# Altium footprint library hmi.PcbLib: 23 footprints (part 2 of 2)
Each footprint in its own frame and in the unit in brackets; x right, y up, seen from the top. Pads: shape width x height; smd on the part's side, far side on the other; paste and mask are expansions set on the pad; w line width, h text height; cw(c..) or ccw(c..) is an arc to the next point about the centre after c.
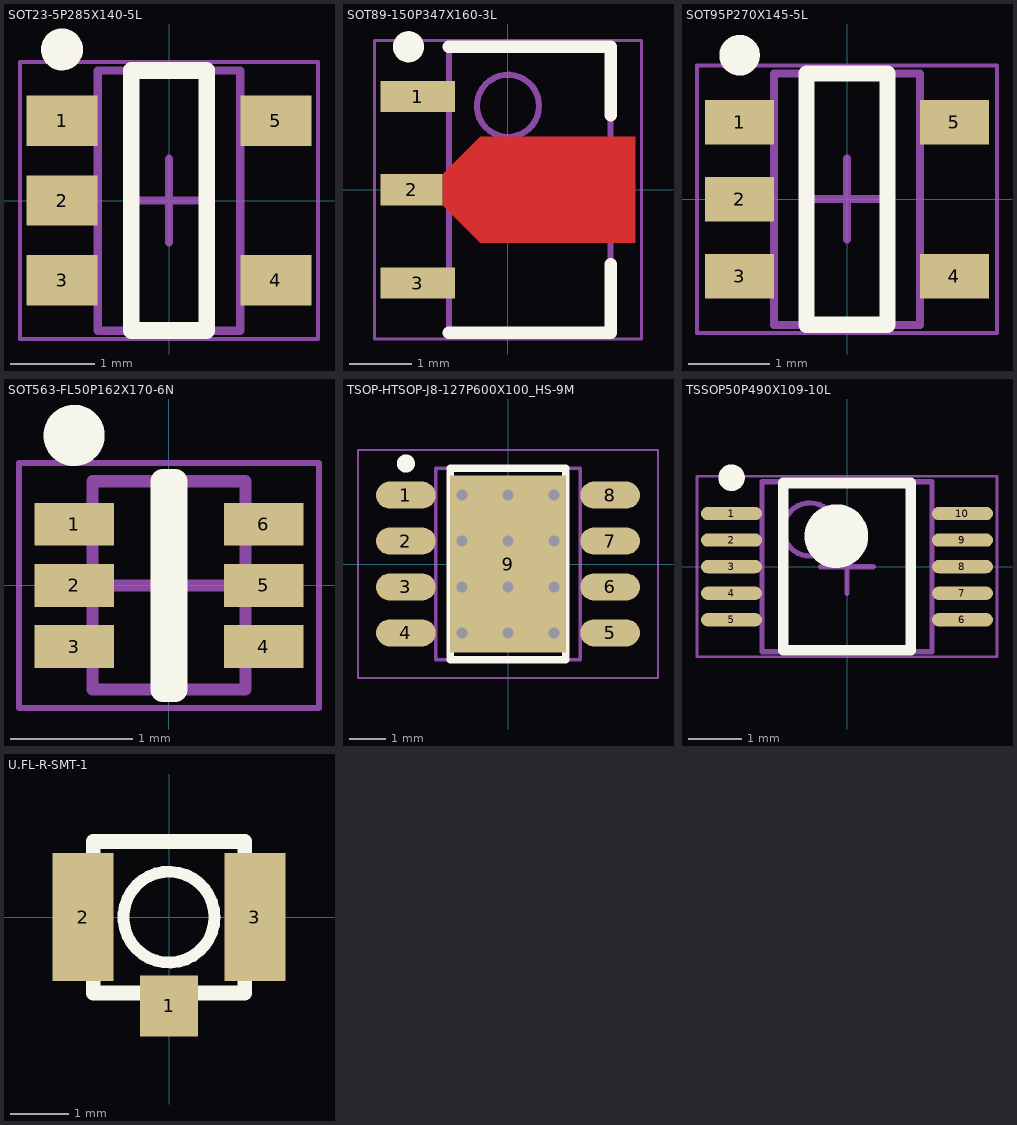
[diagram p1: the footprints below, top view; thin cyan lines are the x and y axes]

## SOT23-5P285X140-5L [mm] "SOT26, 6-Leads, Body 3.00x2.85mm, Pitch 0.95mm, IPC High Density"
height 1.4
pads (5):
  rect 0.85x0.6 smd: 1(-1.275,0.95) 2(-1.275,0) 3(-1.275,-0.95) 4(1.275,-0.95) 5(1.275,0.95)
Top Overlay:
  circle w0.25: c-1.275,1.8 r0.125
  lines w0.2: -0.45,-1.55 -0.45,1.55 0.45,1.55 0.45,-1.55 -0.45,-1.55
Mechanical 13:
  lines w0.1: -0.85,-1.55 0.85,-1.55 0.85,1.55 -0.85,1.55 -0.85,-1.55
Mechanical 15:
  lines w0.05: -1.775,-1.65 1.775,-1.65 1.775,1.65 -1.775,1.65 -1.775,-1.65
  lines w0.1: -0.5,0 0.5,0 ; 0,-0.5 0,0.5
3D body: height 1.4, standoff 0.1, extent -0.85,-1.55 0.85,1.55

## SOT89-150P347X160-3L [mm] "SOT89, 3-Leads, Body 4.50x2.48mm, Pitch 1.50mm, Lead Span 3.5mm, IPC High Density"
height 1.6
pads (3):
  rect 1.2x0.5 smd: 1(-1.45,1.5) 3(-1.45,-1.5)
  rect 1x0.5 smd: 2(-1.55,0)
Top Layer:
  region: -1.05,0.25 -0.45,0.85 2.05,0.85 2.05,-0.85 -0.45,-0.85 -1.05,-0.25
Top Overlay:
  circle w0.25: c-1.6,2.3 r0.125
  lines w0.2: -0.95,-2.3 1.65,-2.3 1.65,-1.2 ; -0.95,2.3 1.65,2.3 1.65,1.2
Mechanical 13:
  circle w0.1: c0,1.35 r0.5
  lines w0.1: -0.95,-2.3 -0.95,2.3 1.65,2.3 1.65,-2.3 -0.95,-2.3
Mechanical 15:
  lines w0.05: -2.15,-2.4 -2.15,2.4 2.15,2.4 2.15,-2.4 -2.15,-2.4
  lines w0.1: -0.15,0 0.85,0 ; 0.35,-0.5 0.35,0.5
3D body: height 1.6, standoff 0, extent -0.95,-2.3 1.65,2.3

## SOT95P270X145-5L [mm] "SOT23, 5-Leads, Body 2.90x2.70mm, Pitch 0.95mm, IPC High Density"
height 1.45
pads (5):
  rect 0.85x0.55 smd: 1(-1.325,0.95) 2(-1.325,0) 3(-1.325,-0.95) 4(1.325,-0.95) 5(1.325,0.95)
Top Overlay:
  circle w0.25: c-1.325,1.775 r0.125
  lines w0.2: -0.5,-1.55 0.5,-1.55 0.5,1.55 -0.5,1.55 -0.5,-1.55
Mechanical 13:
  lines w0.1: -0.9,-1.55 -0.9,1.55 0.9,1.55 0.9,-1.55 -0.9,-1.55
Mechanical 15:
  lines w0.05: -1.85,-1.65 -1.85,1.65 1.85,1.65 1.85,-1.65 -1.85,-1.65
  lines w0.1: -0.5,0 0.5,0 ; 0,-0.5 0,0.5
3D body: height 1.45, standoff 0, extent -0.9,-1.55 0.9,1.55

## SOT563-FL50P162X170-6N [mm] "SOTFL, 6-Leads, Body 1.60x1.63mm, Pitch 0.50mm, IPC Medium Density"
height 1.7
pads (6):
  rect 0.65x0.35 smd: 1(-0.775,0.5) 2(-0.775,0) 3(-0.775,-0.5) 4(0.775,-0.5) 5(0.775,0) 6(0.775,0.5)
Top Overlay:
  circle w0.25: c-0.775,1.225 r0.125
  lines w0.2: -0.05,-0.85 -0.05,0.85 0.05,0.85 0.05,-0.85 -0.05,-0.85
Mechanical 13:
  lines w0.1: -0.625,-0.85 0.625,-0.85 0.625,0.85 -0.625,0.85 -0.625,-0.85
Mechanical 15:
  lines w0.05: -1.225,-1 1.225,-1 1.225,1 -1.225,1 -1.225,-1
  lines w0.1: -0.5,0 0.5,0 ; 0,-0.5 0,0.5
3D body: height 1.7, standoff 0, extent -0.625,-0.85 0.625,0.85

## TSOP-HTSOP-J8-127P600X100_HS-9M [mm] "TSOP, 8-Leads, Body 5.02x3.90mm, Pitch 1.27mm, Thermal Pad 3.20x2.40mm, IPC Low Density"
height 1
pads (9):
  oval 1.65x0.75 smd: 1(-2.825,1.905) 2(-2.825,0.635) 3(-2.825,-0.635) 4(-2.825,-1.905) 5(2.825,-1.905) 6(2.825,-0.635) 7(2.825,0.635) 8(2.825,1.905)
  rect 3.2x4.9 smd: 9(0,0)
via 0,-0.635 diameter 0.66 hole 0.3
via 1.27,-0.635 diameter 0.66 hole 0.3
via 1.27,-1.905 diameter 0.66 hole 0.3
via 0,-1.905 diameter 0.66 hole 0.3
via 0,0.635 diameter 0.66 hole 0.3
via 1.27,0.635 diameter 0.66 hole 0.3
via -1.27,0.635 diameter 0.66 hole 0.3
via -1.27,-0.635 diameter 0.66 hole 0.3
via -1.27,-1.905 diameter 0.66 hole 0.3
via -1.27,1.905 diameter 0.66 hole 0.3
via 0,1.905 diameter 0.66 hole 0.3
via 1.27,1.905 diameter 0.66 hole 0.3
Top Overlay:
  circle w0.25: c-2.825,2.78 r0.125
  lines w0.2: -1.6,-2.65 -1.6,2.65 1.6,2.65 1.6,-2.65 -1.6,-2.65
Mechanical 13:
  circle w0.1: c-1.1,1.75 r0.5
  lines w0.1: -2,-2.65 -2,2.65 2,2.65 2,-2.65 -2,-2.65
Mechanical 15:
  lines w0.05: -4.15,-3.15 -4.15,3.15 4.15,3.15 4.15,-3.15 -4.15,-3.15
  lines w0.1: -0.5,0 0.5,0 ; 0,-0.5 0,0.5
3D body: height 1, standoff 0, extent -2,-2.65 2,2.65

## TSSOP50P490X109-10L [mm] "TSSOP, 10-Leads, Body 3.00x3.00mm, Pitch 0.50mm, IPC High Density"
height 1.1
pads (10):
  oval 1.15x0.25 smd: 1(-2.175,1) 2(-2.175,0.5) 3(-2.175,0) 4(-2.175,-0.5) 5(-2.175,-1) 6(2.175,-1) 7(2.175,-0.5) 8(2.175,0) 9(2.175,0.5) 10(2.175,1)
Top Overlay:
  circle w0.6: c-0.2,0.575 r0.3
  circle w0.25: c-2.175,1.675 r0.125
  lines w0.2: -1.2,-1.575 1.2,-1.575 1.2,1.575 -1.2,1.575 -1.2,-1.575
Mechanical 13:
  circle w0.1: c-0.7,0.7 r0.5
  lines w0.1: -1.6,-1.6 1.6,-1.6 1.6,1.6 -1.6,1.6 -1.6,-1.6
Mechanical 15:
  lines w0.05: -2.825,-1.7 2.825,-1.7 2.825,1.7 -2.825,1.7 -2.825,-1.7
  lines w0.1: -0.5,0 0.5,0 ; 0,-0.5 0,0.5
3D body: height 1.1, standoff 0.05, extent -1.6,-1.6 1.6,1.6

## U.FL-R-SMT-1 [mm]
pads (3):
  rect 1x1.05 smd: 1(0,-1.525)
  rect 1.05x2.2 smd: 2(-1.475,0) 3(1.475,0)
Top Overlay:
  circle w0.203: c0,0 r0.781
  lines w0.254: -1.3,-1.3 -1.3,1.3 1.3,1.3 1.3,-1.3 -1.3,-1.3
3D body: height 0.35, standoff 0, extent -1.427,-1.427 1.427,1.427
3D body: height 1.25, standoff 0, extent -0.781,-0.781 0.781,0.781